# EAGLE library part 61003621121 (library Wuerth_Elektronik_eiCan_Pin_&_Socked_Headers_v1.3)
WR-PHD 2.54mm Dual SMT Pin Header, 36 Pins
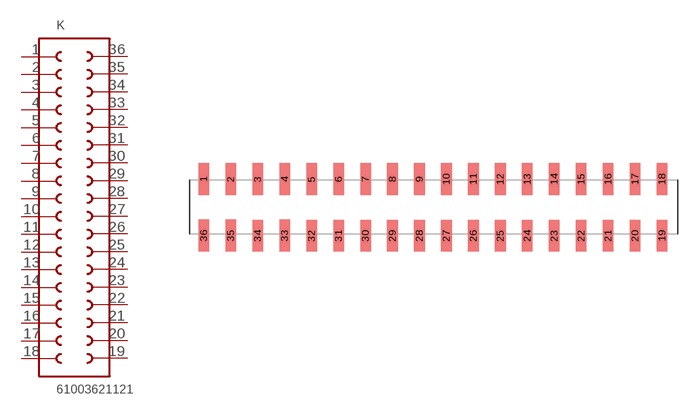
[diagram p105: symbol with the pads of 61003621121; footprint 61003621121]

Designator prefix K

## 61003621121  [61003621121]
1  1  pas
2  2  pas
3  3  pas
4  4  pas
5  5  pas
6  6  pas
7  7  pas
8  8  pas
9  9  pas
10  10  pas
11  11  pas
12  12  pas
13  13  pas
14  14  pas
15  15  pas
16  16  pas
17  17  pas
18  18  pas
19  19  pas
20  20  pas
21  21  pas
22  22  pas
23  23  pas
24  24  pas
25  25  pas
26  26  pas
27  27  pas
28  28  pas
29  29  pas
30  30  pas
31  31  pas
32  32  pas
33  33  pas
34  34  pas
35  35  pas
36  36  pas

## Footprint 61003621121 (pad centres in mm)
WR-PHD 2.54mm Dual SMT Pin Header, 36 Pins
smd 1 x 3: 1 -21.59,2.54; 2 -19.05,2.54; 3 -16.51,2.54; 4 -13.97,2.54; 5 -11.43,2.54; 6 -8.89,2.54; 7 -6.35,2.54; 8 -3.81,2.54; 9 -1.27,2.54; 10 1.27,2.54; 11 3.81,2.54; 12 6.35,2.54; 13 8.89,2.54; 14 11.43,2.54; 15 13.97,2.54; 16 16.51,2.54; 17 19.05,2.54; 18 21.59,2.54; 19 21.59,-2.79; 20 19.05,-2.79; 21 16.51,-2.79; 22 13.97,-2.79; 23 11.43,-2.79; 24 8.89,-2.79; 25 6.35,-2.79; 26 3.81,-2.79; 27 1.27,-2.79; 28 -1.27,-2.79; 29 -3.81,-2.79; 30 -6.35,-2.79; 31 -8.89,-2.79; 32 -11.43,-2.79; 33 -13.97,-2.76; 34 -16.51,-2.79; 35 -19.05,-2.76; 36 -21.59,-2.76